# Altium schematic symbol library Studio.SchLib: 22 symbols
Pins are listed as number, name and electrical type; pins without a type are passive.

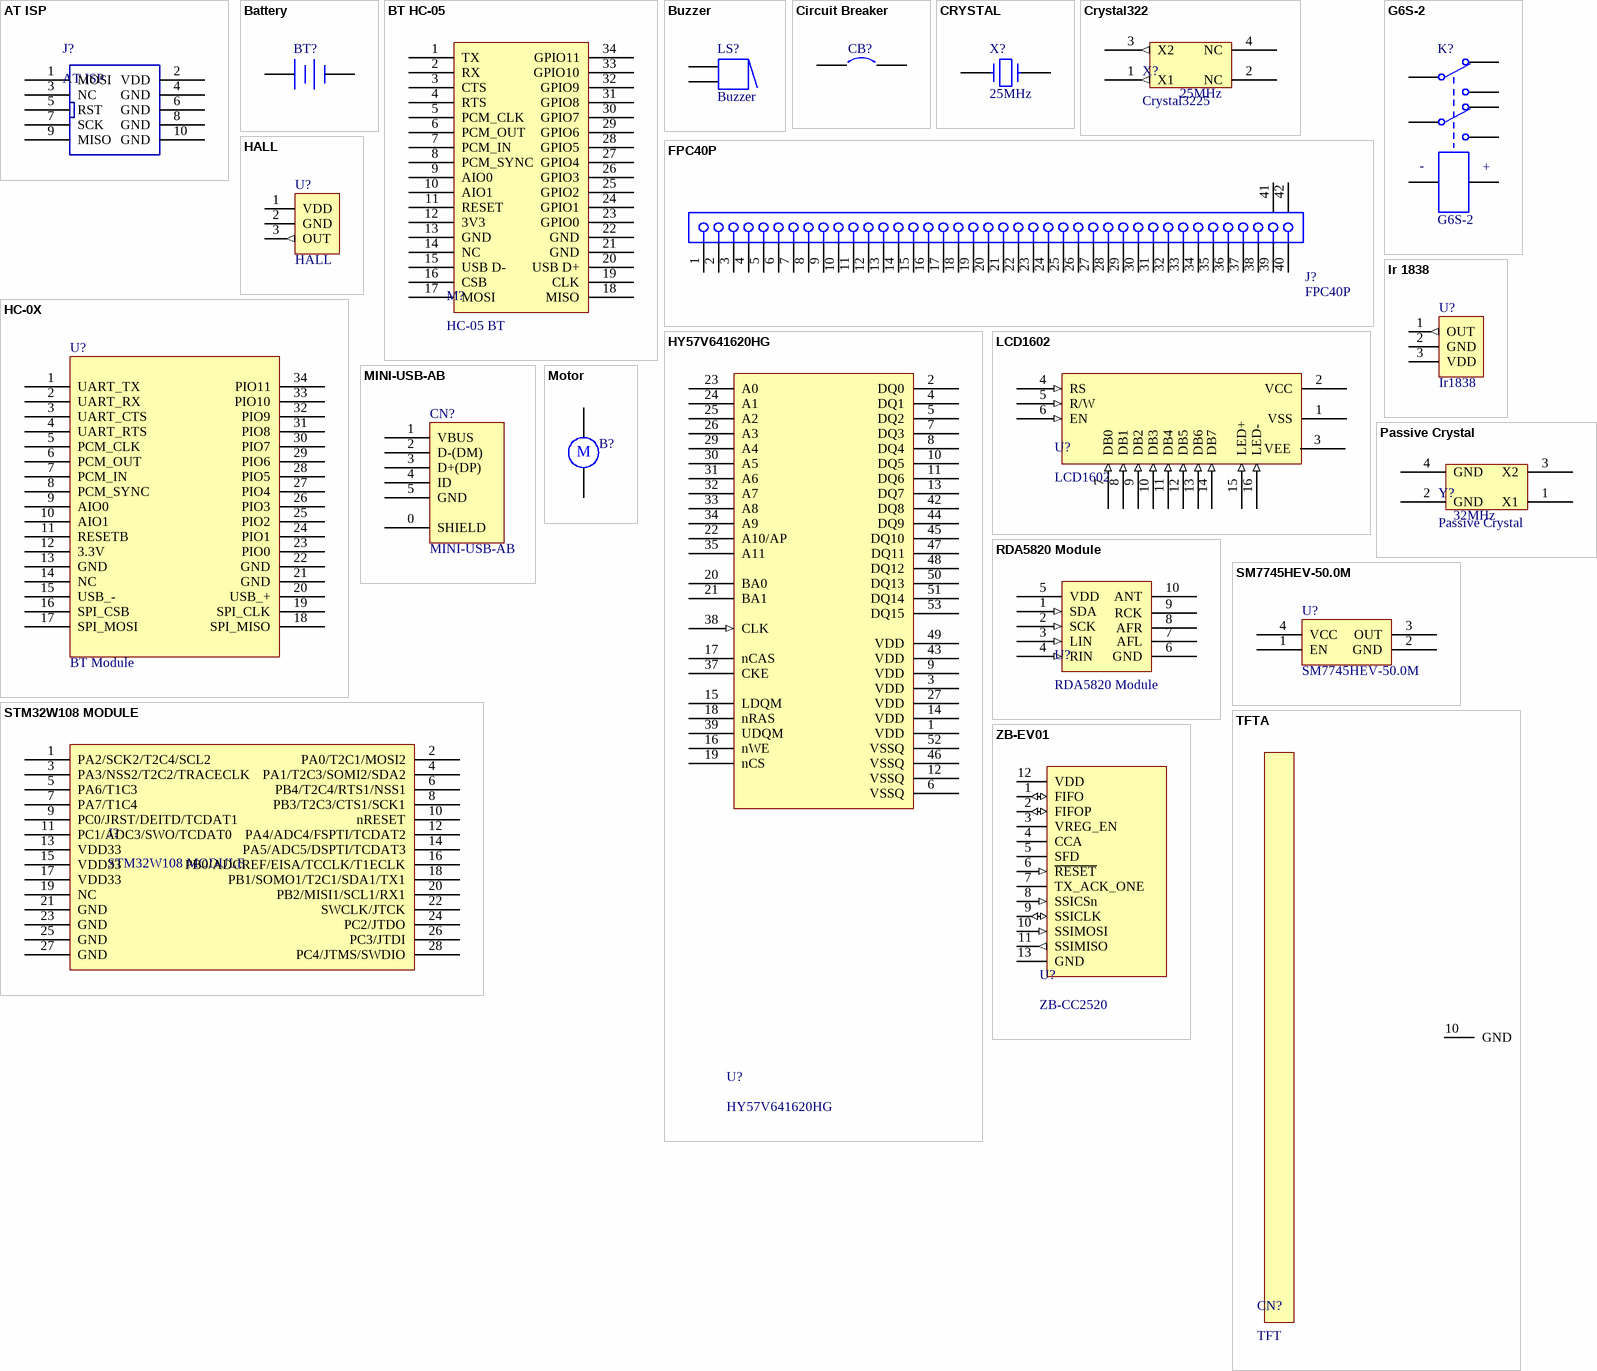
[diagram p0: symbols AT ISP to ZB-EV01]

## AT ISP
designator J?
ISP 10PIN
footprint DC3/10P/2.54MM
pins: 1 MOSI, 2 VDD (power), 3 NC, 4 GND (power), 5 RST, 6 GND (power), 7 SCK, 8 GND (power), 9 MISO, 10 GND (power)

## Battery
designator BT?
Multicell Battery; Published: 24-Mar-1999; LatestRevisionDate: 17-Jul-2002; LatestRevisionNote: Re-released for DXP Platform.; PackageReference: BAT-2; Publisher: Altium Limited; PackageDescription: Battery; 2 Leads
footprint BAT-2 (Battery; 2 Leads)
pins: 1 +, 2 -

## BT HC-05
designator M?, comment HC-05 BT
Bluetooth Module
footprint BT HC-05 (Bluetooth Module HC-05)
pins: 1 TX, 2 RX, 3 CTS, 4 RTS, 5 PCM_CLK, 6 PCM_OUT, 7 PCM_IN, 8 PCM_SYNC, 9 AIO0, 10 AIO1, 11 RESET, 12 3V3, 13 GND, 14 NC, 15 USB D-, 16 CSB, 17 MOSI, 18 MISO, 19 CLK, 20 USB D+, 21 GND, 22 GND, 23 GPIO0, 24 GPIO1, 25 GPIO2, 26 GPIO3, 27 GPIO4, 28 GPIO5, 29 GPIO6, 30 GPIO7, 31 GPIO8, 32 GPIO9, 33 GPIO10, 34 GPIO11

## Buzzer
designator LS?
Magnetic Transducer Buzzer; Published: 24-Mar-1999; LatestRevisionDate: 17-Dec-2003; LatestRevisionNote: Schematic revised, PCB Footprint replaced.; DatasheetDocument: 17-Dec-2003; PackageReference: ABSM-1574; Publisher: Altium Limited; ComponentLink1Description: Manufacturer Link; ComponentLink1URL: http://www.megastar.com/linecard/buzzmode/index.php
footprint Buzzer
pins: 1, 2
1 alternate drawing of the same symbol

## Circuit Breaker
designator CB?
Circuit Breaker; Published: 24-Mar-1999; LatestRevisionDate: 17-Jul-2002; LatestRevisionNote: Re-released for DXP Platform.; PackageReference: SPST-2; Publisher: Altium Limited; PackageDescription: Switch; 2 Leads
footprint SPST-2 (Switch; 2 Leads)
pins: 1, 2

## CRYSTAL
designator X?, comment 25MHz
Crystal
footprint XTAL1 (Footprint not found)
footprint XTAL_socket
pins: 1, 2
2 alternate drawings of the same symbol

## Crystal322
designator X?, comment Crystal3225  value 25MHz
footprint OSC7050 (Length, width 7*9mm, Height 1.3mm)
footprint osc3225 (Length, width 3.2 *2.5mm, Height 1.3mm)
pins: 1 X1 (out), 2 NC (power), 3 X2 (out), 4 NC

## FPC40P
designator J?
FH12 Series, "Flip-Lock" SMT/ZIF Connector - 0.5mm Spaced Top Contact; Positions: 40; ContactMaterial: Phosphor Bronze; Current: 0.4A; PCB_Layout: Complies with manufacturer's recommendation.; Note: Pad dimensions follow nominal values, Suitable for Wave Soldering, Adjust for Re-flow.; Published: 17-Jul-2002; DatasheetDocument: 13-Nov-2000; PackageDocument: 13-Nov-2000; PackageReference: FH12A-40S-0.5SH; Publisher: Altium Limited; ComponentLink1Description: Manufacturer Link; ComponentLink1URL: http://www.hiroseusa.com/; ComponentLink2Description: Datasheet; ComponentLink2URL: http://www.hirose.co.jp/cataloge_hp/e58605370.pdf
footprint FH12A-40S-0.5SH (Connector; FH12 Series; 40 Position; 0.5mm Spaced Top Contact)
signal-integrity model FH12
pins: 1, 2, 3, 4, 5, 6, 7, 8, 9, 10, 11, 12, 13, 14, 15, 16, 17, 18, 19, 20, 21, 22, 23, 24, 25, 26, 27, 28, 29, 30, 31, 32, 33, 34, 35, 36, 37, 38, 39, 40, 41 MH1, 42 MH2

## G6S-2
designator K?
Dual-Pole Dual-Throw Relay; Published: 24-Mar-1999; LatestRevisionDate: 17-Jul-2002; LatestRevisionNote: Re-released for DXP Platform.; PackageReference: DIP-P8; Publisher: Altium Limited; PackageDescription: Relay; 8 Leads
footprint DIP-P8 (Dual-Pole Dual-Throw Relay; 8 Leads)
simulation model DPDTRELAY (Spice Subcircuit)
pins: 1, 3, 4, 5, 8, 9, 10, 12
text: -; +

## HALL
designator U?
LatestRevisionDate: 17-Jul-2002; LatestRevisionNote: Re-released for DXP Platform.; Publisher: Altium Limited
footprint TO-220AB (TO, Thru-Hole, Vertical, Heatsink Mounted; 3 In-Line Leads; Pitch 2.54 mm)
pins: 1 VDD (power), 2 GND (power), 3 OUT (out)

## HC-0X
designator U?, comment BT Module
Bluetooth Module
footprint BT10
footprint BLUETOOTH
pins: 1 UART_TX, 2 UART_RX, 3 UART_CTS, 4 UART_RTS, 5 PCM_CLK, 6 PCM_OUT, 7 PCM_IN, 8 PCM_SYNC, 9 AIO0, 10 AIO1, 11 RESETB, 12 3.3V, 13 GND, 14 NC, 15 USB_-, 16 SPI_CSB, 17 SPI_MOSI, 18 SPI_MISO, 19 SPI_CLK, 20 USB_+, 21 GND, 22 GND, 23 PIO0, 24 PIO1, 25 PIO2, 26 PIO3, 27 PIO4, 28 PIO5, 29 PIO6, 30 PIO7, 31 PIO8, 32 PIO9, 33 PIO10, 34 PIO11
2 alternate drawings of the same symbol

## HY57V641620HG
designator U?
SDRAM
pins: 1 VDD (power), 2 DQ0 (power), 3 VDD (power), 4 DQ1 (power), 5 DQ2 (power), 6 VSSQ (power), 7 DQ3 (power), 8 DQ4 (power), 9 VDD (power), 10 DQ5 (power), 11 DQ6 (power), 12 VSSQ (power), 13 DQ7 (power), 14 VDD (power), 15 LDQM, 16 nWE, 17 nCAS, 18 nRAS, 19 nCS, 20 BA0 (power), 21 BA1 (power), 22 A10/AP (power), 23 A0 (power), 24 A1 (power), 25 A2 (power), 26 A3 (power), 27 VDD (power), 29 A4 (power), 30 A5 (power), 31 A6 (power), 32 A7 (power), 33 A8 (power), 34 A9 (power), 35 A11 (power), 37 CKE, 38 CLK (in), 39 UDQM, 42 DQ8 (power), 43 VDD (power), 44 DQ9 (power), 45 DQ10 (power), 46 VSSQ (power), 47 DQ11 (power), 48 DQ12 (power), 49 VDD (power), 50 DQ13 (power), 51 DQ14 (power), 52 VSSQ (power), 53 DQ15 (power)

## Ir 1838
designator U?, comment Ir1838
Photo Modules for PCM Remote Control Systems; LatestRevisionDate: 17-Jul-2002; LatestRevisionNote: Re-released for DXP Platform.; Publisher: Altium Limited
footprint TSOP18
pins: 1 OUT (out), 2 GND (power), 3 VDD (power)

## LCD1602
designator U?
pins: 1 VSS (power), 2 VCC (power), 3 VEE (power), 4 RS (in), 5 R/W (in), 6 EN (in), 7 DB0 (in), 8 DB1 (in), 9 DB2 (in), 10 DB3 (in), 11 DB4 (in), 12 DB5 (in), 13 DB6 (in), 14 DB7 (in), 15 LED+ (in), 16 LED- (in)

## MINI-USB-AB
designator CN?
footprint USB/SM0.8-6H5 (Connector; USB2.0, Type B, SM; 5 Position; Right Angle)
pins: 0 SHIELD, 1 VBUS, 2 D-(DM), 3 D+(DP), 4 ID, 5 GND

## Motor
designator B?
Motor, General Kind; Published: 24-Mar-1999; LatestRevisionDate: 17-Jul-2002; LatestRevisionNote: Re-released for DXP Platform.; PackageReference: RB5-10.5; Publisher: Altium Limited; PackageDescription: Capacitor (Radial); 2 Leads
footprint RB5-10.5 (Capacitor (Radial); 2 Leads)
pins: 1, 2
text: M

## Passive Crystal
designator Y?  value 32MHz
footprint OSC3225 (Length, width 3.2 *2.5mm, Height 1.3mm)
pins: 1 X1, 2 GND (power), 3 X2, 4 GND (power)

## RDA5820 Module
designator U?
FM TX/TX
pins: 1 SDA (in), 2 SCK (in), 3 LIN (in), 4 RIN (in), 5 VDD (power), 6 GND (power), 7 AFL, 8 AFR, 9 RCK, 10 ANT

## SM7745HEV-50.0M
designator U?
footprint Oscillator
pins: 1 EN, 2 GND, 3 OUT, 4 VCC

## STM32W108 MODULE
designator J?
STM32W108 MODULE FORM SILVER ST Wireless ARM
pins: 1 PA2/SCK2/T2C4/SCL2, 2 PA0/T2C1/MOSI2, 3 PA3/NSS2/T2C2/TRACECLK, 4 PA1/T2C3/SOMI2/SDA2, 5 PA6/T1C3, 6 PB4/T2C4/RTS1/NSS1, 7 PA7/T1C4, 8 PB3/T2C3/CTS1/SCK1, 9 PC0/JRST/DEITD/TCDAT1, 10 nRESET, 11 PC1/ADC3/SWO/TCDAT0, 12 PA4/ADC4/FSPTI/TCDAT2, 13 VDD33, 14 PA5/ADC5/DSPTI/TCDAT3, 15 VDD33, 16 PB0/ADCREF/EISA/TCCLK/T1ECLK, 17 VDD33, 18 PB1/SOMO1/T2C1/SDA1/TX1, 19 NC, 20 PB2/MISI1/SCL1/RX1, 21 GND, 22 SWCLK/JTCK, 23 GND, 24 PC2/JTDO, 25 GND, 26 PC3/JTDI, 27 GND, 28 PC4/JTMS/SWDIO

## TFTA
designator CN?, comment TFT
I932X
pins: 10 GND (power)

## ZB-EV01
designator U?, comment ZB-CC2520
CC2520 Module
pins: 1 FIFO (io), 2 FIFOP (io), 3 VREG_EN, 4 CCA, 5 SFD, 6 ~{RESET} (in), 7 TX_ACK_ONE, 8 SSICSn (in), 9 SSICLK (io), 10 SSIMOSI (in), 11 SSIMISO (out), 12 VDD (power), 13 GND (power)